# Altium footprint library MicroSMD_50P_V.PcbLib: 85 footprints (part 6 of 7)
Each footprint in its own frame and in the unit in brackets; x right, y up, seen from the top. Pads: shape width x height; smd on the part's side, far side on the other; paste and mask are expansions set on the pad; w line width, h text height; cw(c..) or ccw(c..) is an arc to the next point about the centre after c.
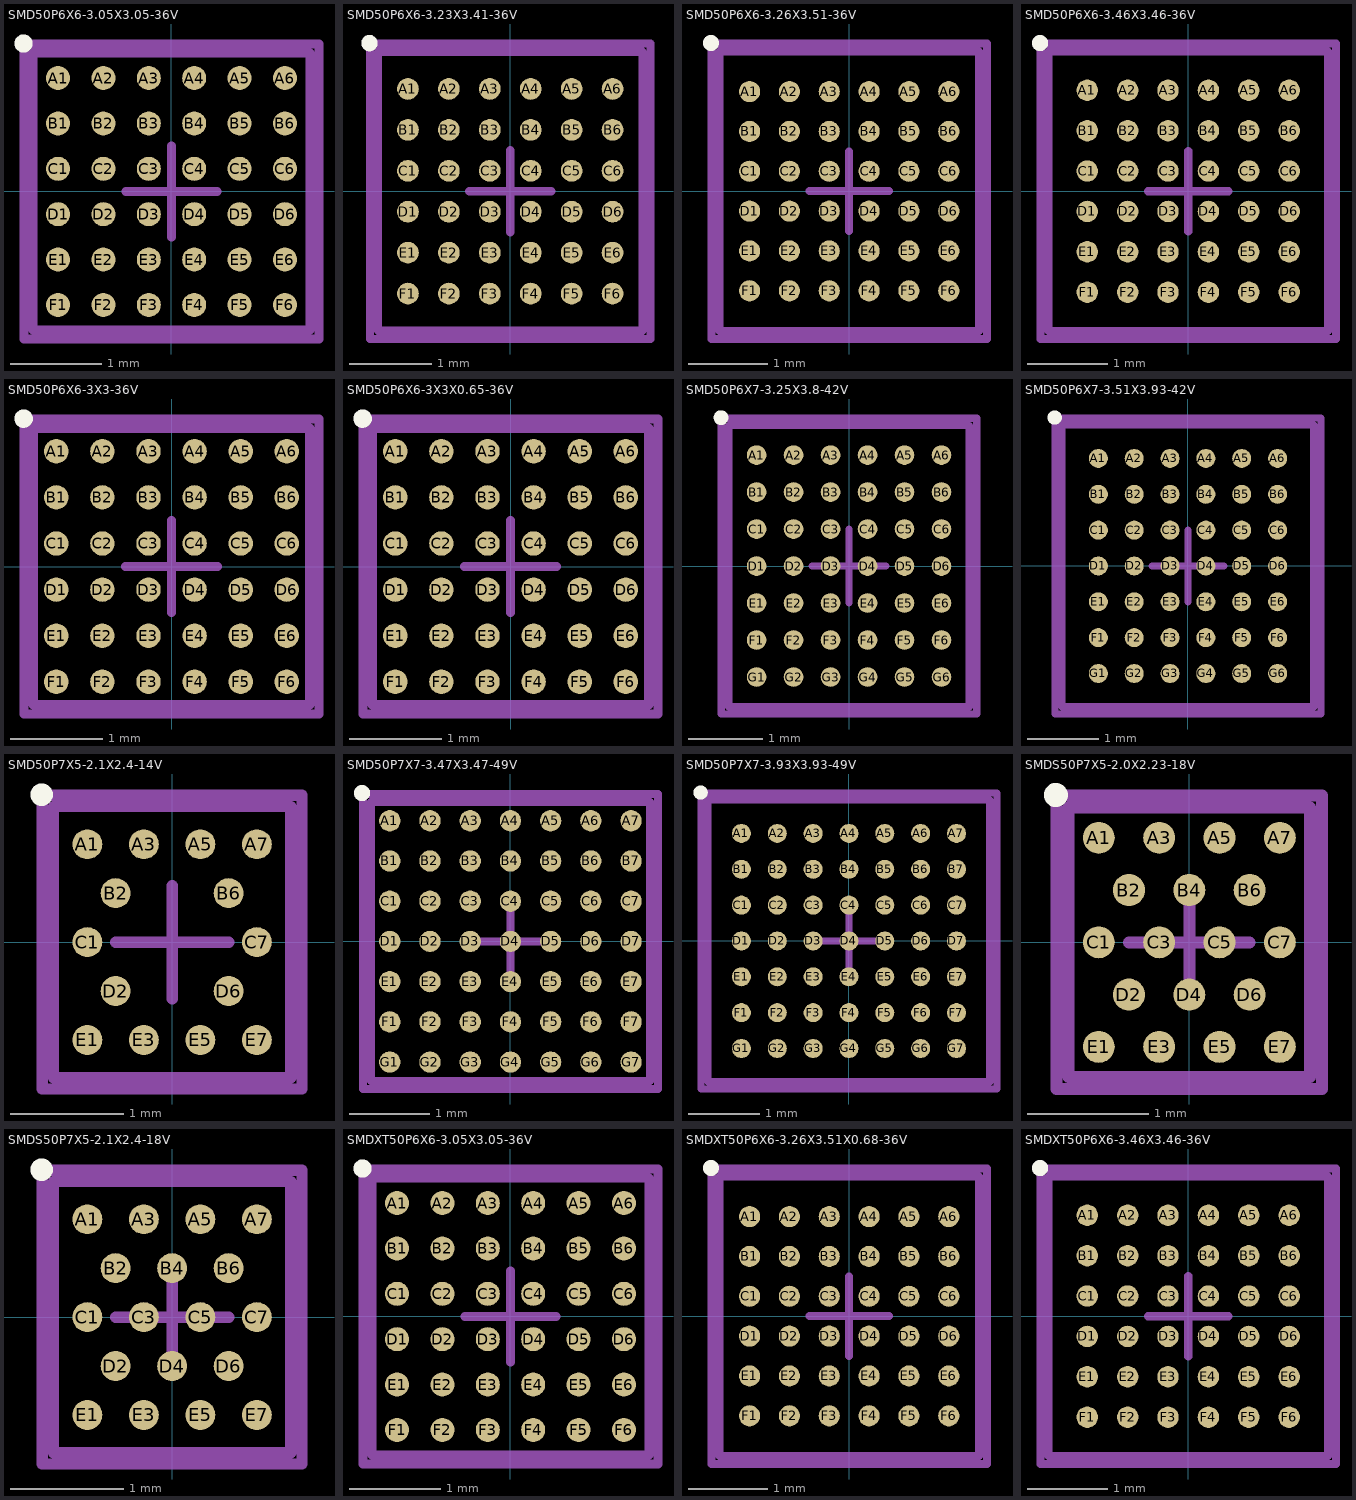
[diagram p5: the footprints below, top view; thin cyan lines are the x and y axes]

## SMD50P6X6-3.05X3.05-36V [mm] "Micro SMD, 36-Leads, Body 3.05x3.05mm, Pitch 0.5mm, NSC Recommended"
height 0.73
pads (36):
  round 0.265 smd paste-0.132 mask+0.05: A1(-1.25,1.25) A2(-0.75,1.25) A3(-0.25,1.25) A4(0.25,1.25) A5(0.75,1.25) A6(1.25,1.25) B1(-1.25,0.75) B2(-0.75,0.75) B3(-0.25,0.75) B4(0.25,0.75) B5(0.75,0.75) B6(1.25,0.75) C1(-1.25,0.25) C2(-0.75,0.25) C3(-0.25,0.25) C4(0.25,0.25) C5(0.75,0.25) C6(1.25,0.25) D1(-1.25,-0.25) D2(-0.75,-0.25) D3(-0.25,-0.25) D4(0.25,-0.25) D5(0.75,-0.25) D6(1.25,-0.25) E1(-1.25,-0.75) E2(-0.75,-0.75) E3(-0.25,-0.75) E4(0.25,-0.75) E5(0.75,-0.75) E6(1.25,-0.75) F1(-1.25,-1.25) F2(-0.75,-1.25) F3(-0.25,-1.25) F4(0.25,-1.25) F5(0.75,-1.25) F6(1.25,-1.25)
Top Overlay:
  circle w0.1: c-1.63,1.63 r0.05
Top Paste:
  drawing of 324 lines, arcs and shapes, not listed
Mechanical 13:
  lines w0.1: -1.525,-1.525 1.525,-1.525 1.525,1.525 -1.525,1.525 -1.525,-1.525
Mechanical 15:
  lines w0.1: -0.5,0 0.5,0 ; 0,-0.5 0,0.5 ; -1.625,-1.625 1.625,-1.625 1.625,1.625 -1.625,1.625 -1.625,-1.625
3D body: height 0.73, standoff 0, extent -1.524,-1.524 1.524,1.524

## SMD50P6X6-3.23X3.41-36V [mm] "Micro SMD, 36-Leads, Body 3.41x3.23mm, Pitch 0.5mm, NSC Recommended"
height 0.68
pads (36):
  round 0.265 smd paste-0.132 mask+0.05: A1(-1.25,1.25) A2(-0.75,1.25) A3(-0.25,1.25) A4(0.25,1.25) A5(0.75,1.25) A6(1.25,1.25) B1(-1.25,0.75) B2(-0.75,0.75) B3(-0.25,0.75) B4(0.25,0.75) B5(0.75,0.75) B6(1.25,0.75) C1(-1.25,0.25) C2(-0.75,0.25) C3(-0.25,0.25) C4(0.25,0.25) C5(0.75,0.25) C6(1.25,0.25) D1(-1.25,-0.25) D2(-0.75,-0.25) D3(-0.25,-0.25) D4(0.25,-0.25) D5(0.75,-0.25) D6(1.25,-0.25) E1(-1.25,-0.75) E2(-0.75,-0.75) E3(-0.25,-0.75) E4(0.25,-0.75) E5(0.75,-0.75) E6(1.25,-0.75) F1(-1.25,-1.25) F2(-0.75,-1.25) F3(-0.25,-1.25) F4(0.25,-1.25) F5(0.75,-1.25) F6(1.25,-1.25)
Top Overlay:
  circle w0.1: c-1.72,1.81 r0.05
Top Paste:
  drawing of 324 lines, arcs and shapes, not listed
Mechanical 13:
  lines w0.1: -1.615,-1.705 1.615,-1.705 1.615,1.705 -1.615,1.705 -1.615,-1.705
Mechanical 15:
  lines w0.1: -0.5,0 0.5,0 ; 0,-0.5 0,0.5 ; -1.715,-1.805 1.715,-1.805 1.715,1.805 -1.715,1.805 -1.715,-1.805
3D body: height 0.68, standoff 0, extent -1.614,-1.704 1.614,1.704

## SMD50P6X6-3.26X3.51-36V [mm] "Micro SMD, 36-Leads, Body 3.51x3.26mm, Pitch 0.5mm, NSC Recommended"
height 0.68
pads (36):
  round 0.265 smd paste-0.132 mask+0.05: A1(-1.25,1.25) A2(-0.75,1.25) A3(-0.25,1.25) A4(0.25,1.25) A5(0.75,1.25) A6(1.25,1.25) B1(-1.25,0.75) B2(-0.75,0.75) B3(-0.25,0.75) B4(0.25,0.75) B5(0.75,0.75) B6(1.25,0.75) C1(-1.25,0.25) C2(-0.75,0.25) C3(-0.25,0.25) C4(0.25,0.25) C5(0.75,0.25) C6(1.25,0.25) D1(-1.25,-0.25) D2(-0.75,-0.25) D3(-0.25,-0.25) D4(0.25,-0.25) D5(0.75,-0.25) D6(1.25,-0.25) E1(-1.25,-0.75) E2(-0.75,-0.75) E3(-0.25,-0.75) E4(0.25,-0.75) E5(0.75,-0.75) E6(1.25,-0.75) F1(-1.25,-1.25) F2(-0.75,-1.25) F3(-0.25,-1.25) F4(0.25,-1.25) F5(0.75,-1.25) F6(1.25,-1.25)
Top Overlay:
  circle w0.1: c-1.735,1.86 r0.05
Top Paste:
  drawing of 324 lines, arcs and shapes, not listed
Mechanical 13:
  lines w0.1: -1.63,-1.755 1.63,-1.755 1.63,1.755 -1.63,1.755 -1.63,-1.755
Mechanical 15:
  lines w0.1: -0.5,0 0.5,0 ; 0,-0.5 0,0.5 ; -1.73,-1.855 1.73,-1.855 1.73,1.855 -1.73,1.855 -1.73,-1.855
3D body: height 0.68, standoff 0, extent -1.629,-1.754 1.629,1.754

## SMD50P6X6-3.46X3.46-36V [mm] "Micro SMD, 36-Leads, Body 3.46x3.46mm, Pitch 0.5mm, NSC Recommended"
height 0.68
pads (36):
  round 0.265 smd paste-0.132 mask+0.05: A1(-1.25,1.25) A2(-0.75,1.25) A3(-0.25,1.25) A4(0.25,1.25) A5(0.75,1.25) A6(1.25,1.25) B1(-1.25,0.75) B2(-0.75,0.75) B3(-0.25,0.75) B4(0.25,0.75) B5(0.75,0.75) B6(1.25,0.75) C1(-1.25,0.25) C2(-0.75,0.25) C3(-0.25,0.25) C4(0.25,0.25) C5(0.75,0.25) C6(1.25,0.25) D1(-1.25,-0.25) D2(-0.75,-0.25) D3(-0.25,-0.25) D4(0.25,-0.25) D5(0.75,-0.25) D6(1.25,-0.25) E1(-1.25,-0.75) E2(-0.75,-0.75) E3(-0.25,-0.75) E4(0.25,-0.75) E5(0.75,-0.75) E6(1.25,-0.75) F1(-1.25,-1.25) F2(-0.75,-1.25) F3(-0.25,-1.25) F4(0.25,-1.25) F5(0.75,-1.25) F6(1.25,-1.25)
Top Overlay:
  circle w0.1: c-1.835,1.835 r0.05
Top Paste:
  drawing of 324 lines, arcs and shapes, not listed
Mechanical 13:
  lines w0.1: -1.73,-1.73 1.73,-1.73 1.73,1.73 -1.73,1.73 -1.73,-1.73
Mechanical 15:
  lines w0.1: -0.5,0 0.5,0 ; 0,-0.5 0,0.5 ; -1.83,-1.83 1.83,-1.83 1.83,1.83 -1.83,1.83 -1.83,-1.83
3D body: height 0.68, standoff 0, extent -1.73,-1.73 1.73,1.73

## SMD50P6X6-3X3-36V [mm] "Micro SMD, 36-Leads, Body 3x3mm, Pitch 0.5mm, NSC Recommended"
height 0.68
pads (36):
  round 0.265 smd paste-0.132 mask+0.05: A1(-1.25,1.25) A2(-0.75,1.25) A3(-0.25,1.25) A4(0.25,1.25) A5(0.75,1.25) A6(1.25,1.25) B1(-1.25,0.75) B2(-0.75,0.75) B3(-0.25,0.75) B4(0.25,0.75) B5(0.75,0.75) B6(1.25,0.75) C1(-1.25,0.25) C2(-0.75,0.25) C3(-0.25,0.25) C4(0.25,0.25) C5(0.75,0.25) C6(1.25,0.25) D1(-1.25,-0.25) D2(-0.75,-0.25) D3(-0.25,-0.25) D4(0.25,-0.25) D5(0.75,-0.25) D6(1.25,-0.25) E1(-1.25,-0.75) E2(-0.75,-0.75) E3(-0.25,-0.75) E4(0.25,-0.75) E5(0.75,-0.75) E6(1.25,-0.75) F1(-1.25,-1.25) F2(-0.75,-1.25) F3(-0.25,-1.25) F4(0.25,-1.25) F5(0.75,-1.25) F6(1.25,-1.25)
Top Overlay:
  circle w0.1: c-1.605,1.605 r0.05
Top Paste:
  drawing of 324 lines, arcs and shapes, not listed
Mechanical 13:
  lines w0.1: -1.5,-1.5 1.5,-1.5 1.5,1.5 -1.5,1.5 -1.5,-1.5
Mechanical 15:
  lines w0.1: -0.5,0 0.5,0 ; 0,-0.5 0,0.5 ; -1.6,-1.6 1.6,-1.6 1.6,1.6 -1.6,1.6 -1.6,-1.6
3D body: height 0.68, standoff 0, extent -1.499,-1.499 1.499,1.499

## SMD50P6X6-3X3X0.65-36V [mm] "Micro SMD, 36-Leads, Body 3x3mm, Pitch 0.5mm, NSC Recommended"
height 0.73
pads (36):
  round 0.265 smd paste-0.132 mask+0.05: A1(-1.25,1.25) A2(-0.75,1.25) A3(-0.25,1.25) A4(0.25,1.25) A5(0.75,1.25) A6(1.25,1.25) B1(-1.25,0.75) B2(-0.75,0.75) B3(-0.25,0.75) B4(0.25,0.75) B5(0.75,0.75) B6(1.25,0.75) C1(-1.25,0.25) C2(-0.75,0.25) C3(-0.25,0.25) C4(0.25,0.25) C5(0.75,0.25) C6(1.25,0.25) D1(-1.25,-0.25) D2(-0.75,-0.25) D3(-0.25,-0.25) D4(0.25,-0.25) D5(0.75,-0.25) D6(1.25,-0.25) E1(-1.25,-0.75) E2(-0.75,-0.75) E3(-0.25,-0.75) E4(0.25,-0.75) E5(0.75,-0.75) E6(1.25,-0.75) F1(-1.25,-1.25) F2(-0.75,-1.25) F3(-0.25,-1.25) F4(0.25,-1.25) F5(0.75,-1.25) F6(1.25,-1.25)
Top Overlay:
  circle w0.1: c-1.605,1.605 r0.05
Top Paste:
  drawing of 324 lines, arcs and shapes, not listed
Mechanical 13:
  lines w0.1: -1.5,-1.5 1.5,-1.5 1.5,1.5 -1.5,1.5 -1.5,-1.5
Mechanical 15:
  lines w0.1: -0.5,0 0.5,0 ; 0,-0.5 0,0.5 ; -1.6,-1.6 1.6,-1.6 1.6,1.6 -1.6,1.6 -1.6,-1.6
3D body: height 0.73, standoff 0, extent -1.499,-1.499 1.499,1.499

## SMD50P6X7-3.25X3.8-42V [mm] "Micro SMD, 42-Leads, Body 3.8x3.25mm, Pitch 0.5mm, NSC Recommended"
height 0.73
pads (42):
  round 0.265 smd paste-0.132 mask+0.05: A1(-1.25,1.5) A2(-0.75,1.5) A3(-0.25,1.5) A4(0.25,1.5) A5(0.75,1.5) A6(1.25,1.5) B1(-1.25,1) B2(-0.75,1) B3(-0.25,1) B4(0.25,1) B5(0.75,1) B6(1.25,1) C1(-1.25,0.5) C2(-0.75,0.5) C3(-0.25,0.5) C4(0.25,0.5) C5(0.75,0.5) C6(1.25,0.5) D1(-1.25,0) D2(-0.75,0) D3(-0.25,0) D4(0.25,0) D5(0.75,0) D6(1.25,0) E1(-1.25,-0.5) E2(-0.75,-0.5) E3(-0.25,-0.5) E4(0.25,-0.5) E5(0.75,-0.5) E6(1.25,-0.5) F1(-1.25,-1) F2(-0.75,-1) F3(-0.25,-1) F4(0.25,-1) F5(0.75,-1) F6(1.25,-1) G1(-1.25,-1.5) G2(-0.75,-1.5) G3(-0.25,-1.5) G4(0.25,-1.5) G5(0.75,-1.5) G6(1.25,-1.5)
Top Overlay:
  circle w0.1: c-1.73,2.005 r0.05
Top Paste:
  drawing of 378 lines, arcs and shapes, not listed
Mechanical 13:
  lines w0.1: -1.625,-1.9 -1.625,1.9 1.625,1.9 1.625,-1.9 -1.625,-1.9
Mechanical 15:
  lines w0.1: -0.5,0 0.5,0 ; 0,-0.5 0,0.5 ; -1.725,-2 -1.725,2 1.725,2 1.725,-2 -1.725,-2
3D body: height 0.73, standoff 0, extent -1.624,-1.899 1.624,1.899

## SMD50P6X7-3.51X3.93-42V [mm] "Micro SMD, 42-Leads, Body 3.93x3.51mm, Pitch 0.5mm, NSC Recommended"
height 0.68
pads (42):
  round 0.265 smd paste-0.132 mask+0.05: A1(-1.25,1.5) A2(-0.75,1.5) A3(-0.25,1.5) A4(0.25,1.5) A5(0.75,1.5) A6(1.25,1.5) B1(-1.25,1) B2(-0.75,1) B3(-0.25,1) B4(0.25,1) B5(0.75,1) B6(1.25,1) C1(-1.25,0.5) C2(-0.75,0.5) C3(-0.25,0.5) C4(0.25,0.5) C5(0.75,0.5) C6(1.25,0.5) D1(-1.25,0) D2(-0.75,0) D3(-0.25,0) D4(0.25,0) D5(0.75,0) D6(1.25,0) E1(-1.25,-0.5) E2(-0.75,-0.5) E3(-0.25,-0.5) E4(0.25,-0.5) E5(0.75,-0.5) E6(1.25,-0.5) F1(-1.25,-1) F2(-0.75,-1) F3(-0.25,-1) F4(0.25,-1) F5(0.75,-1) F6(1.25,-1) G1(-1.25,-1.5) G2(-0.75,-1.5) G3(-0.25,-1.5) G4(0.25,-1.5) G5(0.75,-1.5) G6(1.25,-1.5)
Top Overlay:
  circle w0.1: c-1.86,2.07 r0.05
Top Paste:
  drawing of 378 lines, arcs and shapes, not listed
Mechanical 13:
  lines w0.1: -1.755,-1.965 1.755,-1.965 1.755,1.965 -1.755,1.965 -1.755,-1.965
Mechanical 15:
  lines w0.1: -0.5,0 0.5,0 ; 0,-0.5 0,0.5 ; -1.855,-2.065 1.855,-2.065 1.855,2.065 -1.855,2.065 -1.855,-2.065
3D body: height 0.68, standoff 0, extent -1.754,-1.964 1.754,1.964

## SMD50P7X5-2.1X2.4-14V [mm] "Micro SMD, 18-Leads, Body 2.41x2.1mm, Pitch 0.5mm, NSC Recommended"
height 0.68
pads (14):
  round 0.265 smd paste-0.132 mask+0.05: A1(-0.75,0.866) A3(-0.25,0.866) A5(0.25,0.866) A7(0.75,0.866) B2(-0.5,0.433) B6(0.5,0.433) C1(-0.75,0) C7(0.75,0) D2(-0.5,-0.433) D6(0.5,-0.433) E1(-0.75,-0.866) E3(-0.25,-0.866) E5(0.25,-0.866) E7(0.75,-0.866)
Top Overlay:
  circle w0.1: c-1.155,1.305 r0.05
Top Paste:
  circle w0.05: c-0.7,0.816 r0.025
  circle w0.05: c-0.85,0.966 r0.025
  circle w0.05: c-0.85,0.816 r0.025
  circle w0.05: c-0.7,0.966 r0.025
  circle w0.05: c0.85,0.816 r0.025
  circle w0.05: c0.7,0.966 r0.025
  circle w0.05: c0.7,0.816 r0.025
  circle w0.05: c0.85,0.966 r0.025
  circle w0.05: c0.85,-0.816 r0.025
  circle w0.05: c0.7,-0.966 r0.025
  circle w0.05: c0.7,-0.816 r0.025
  circle w0.05: c0.85,-0.966 r0.025
  circle w0.05: c-0.7,-0.966 r0.025
  circle w0.05: c-0.85,-0.816 r0.025
  circle w0.05: c-0.85,-0.966 r0.025
  circle w0.05: c-0.7,-0.816 r0.025
  circle w0.05: c0.575,0.508 r0.025
  circle w0.05: c0.425,0.358 r0.025
  circle w0.05: c0.425,0.508 r0.025
  circle w0.05: c0.575,0.358 r0.025
  circle w0.05: c0.325,0.816 r0.025
  circle w0.05: c0.175,0.966 r0.025
  circle w0.05: c0.175,0.816 r0.025
  circle w0.05: c0.325,0.966 r0.025
  circle w0.05: c-0.175,0.816 r0.025
  circle w0.05: c-0.325,0.966 r0.025
  circle w0.05: c-0.325,0.816 r0.025
  circle w0.05: c-0.175,0.966 r0.025
  circle w0.05: c0.575,-0.508 r0.025
  circle w0.05: c0.425,-0.358 r0.025
  circle w0.05: c0.425,-0.508 r0.025
  circle w0.05: c0.575,-0.358 r0.025
  circle w0.05: c-0.425,0.358 r0.025
  circle w0.05: c-0.575,0.508 r0.025
  circle w0.05: c-0.575,0.358 r0.025
  circle w0.05: c-0.425,0.508 r0.025
  circle w0.05: c-0.7,-0.075 r0.025
  circle w0.05: c-0.85,0.075 r0.025
  circle w0.05: c-0.85,-0.075 r0.025
  circle w0.05: c-0.7,0.075 r0.025
  circle w0.05: c-0.425,-0.358 r0.025
  circle w0.05: c-0.575,-0.508 r0.025
  circle w0.05: c-0.575,-0.358 r0.025
  circle w0.05: c-0.425,-0.508 r0.025
  circle w0.05: c0.325,-0.816 r0.025
  circle w0.05: c0.175,-0.966 r0.025
  circle w0.05: c0.175,-0.816 r0.025
  circle w0.05: c0.325,-0.966 r0.025
  circle w0.05: c-0.175,-0.816 r0.025
  circle w0.05: c-0.325,-0.966 r0.025
  circle w0.05: c-0.325,-0.816 r0.025
  circle w0.05: c-0.175,-0.966 r0.025
  circle w0.05: c0.85,0.075 r0.025
  circle w0.05: c0.7,-0.075 r0.025
  circle w0.05: c0.7,0.075 r0.025
  circle w0.05: c0.85,-0.075 r0.025
  region: -0.85,0.966 -0.85,0.816 -0.7,0.816 -0.7,0.966
  region: -0.65,0.816 -0.65,0.966 -0.7,0.966 -0.7,0.816
  region: -0.7,1.016 -0.85,1.016 -0.85,0.966 -0.7,0.966
  region: -0.9,0.966 -0.9,0.816 -0.85,0.816 -0.85,0.966
  rectangle: -0.85,0.766 -0.7,0.816
  region: 0.7,0.966 0.7,0.816 0.85,0.816 0.85,0.966
  region: 0.9,0.816 0.9,0.966 0.85,0.966 0.85,0.816
  region: 0.85,1.016 0.7,1.016 0.7,0.966 0.85,0.966
  region: 0.65,0.966 0.65,0.816 0.7,0.816 0.7,0.966
  rectangle: 0.7,0.766 0.85,0.816
  rectangle: 0.7,-1.016 0.85,-0.966
  region: 0.65,-0.816 0.65,-0.966 0.7,-0.966 0.7,-0.816
  region: 0.85,-0.766 0.7,-0.766 0.7,-0.816 0.85,-0.816
  region: 0.9,-0.966 0.9,-0.816 0.85,-0.816 0.85,-0.966
  region: 0.7,-0.816 0.7,-0.966 0.85,-0.966 0.85,-0.816
  region: -0.85,-0.816 -0.85,-0.966 -0.7,-0.966 -0.7,-0.816
  region: -0.65,-0.966 -0.65,-0.816 -0.7,-0.816 -0.7,-0.966
  region: -0.7,-0.766 -0.85,-0.766 -0.85,-0.816 -0.7,-0.816
  region: -0.9,-0.816 -0.9,-0.966 -0.85,-0.966 -0.85,-0.816
  rectangle: -0.85,-1.016 -0.7,-0.966
  rectangle: 0.425,0.308 0.575,0.358
  region: 0.375,0.508 0.375,0.358 0.425,0.358 0.425,0.508
  region: 0.575,0.558 0.425,0.558 0.425,0.508 0.575,0.508
  region: 0.625,0.358 0.625,0.508 0.575,0.508 0.575,0.358
  region: 0.425,0.508 0.425,0.358 0.575,0.358 0.575,0.508
  region: 0.175,0.966 0.175,0.816 0.325,0.816 0.325,0.966
  region: 0.375,0.816 0.375,0.966 0.325,0.966 0.325,0.816
  region: 0.325,1.016 0.175,1.016 0.175,0.966 0.325,0.966
  region: 0.125,0.966 0.125,0.816 0.175,0.816 0.175,0.966
  rectangle: 0.175,0.766 0.325,0.816
  region: -0.325,0.966 -0.325,0.816 -0.175,0.816 -0.175,0.966
  region: -0.125,0.816 -0.125,0.966 -0.175,0.966 -0.175,0.816
  region: -0.175,1.016 -0.325,1.016 -0.325,0.966 -0.175,0.966
  region: -0.375,0.966 -0.375,0.816 -0.325,0.816 -0.325,0.966
  rectangle: -0.325,0.766 -0.175,0.816
  region: 0.425,-0.358 0.425,-0.508 0.575,-0.508 0.575,-0.358
  region: 0.625,-0.508 0.625,-0.358 0.575,-0.358 0.575,-0.508
  region: 0.575,-0.308 0.425,-0.308 0.425,-0.358 0.575,-0.358
  region: 0.375,-0.358 0.375,-0.508 0.425,-0.508 0.425,-0.358
  rectangle: 0.425,-0.558 0.575,-0.508
  region: -0.575,0.508 -0.575,0.358 -0.425,0.358 -0.425,0.508
  region: -0.375,0.358 -0.375,0.508 -0.425,0.508 -0.425,0.358
  region: -0.425,0.558 -0.575,0.558 -0.575,0.508 -0.425,0.508
  region: -0.625,0.508 -0.625,0.358 -0.575,0.358 -0.575,0.508
  rectangle: -0.575,0.308 -0.425,0.358
  region: -0.85,0.075 -0.85,-0.075 -0.7,-0.075 -0.7,0.075
  region: -0.65,-0.075 -0.65,0.075 -0.7,0.075 -0.7,-0.075
  region: -0.7,0.125 -0.85,0.125 -0.85,0.075 -0.7,0.075
  region: -0.9,0.075 -0.9,-0.075 -0.85,-0.075 -0.85,0.075
  rectangle: -0.85,-0.125 -0.7,-0.075
  rectangle: -0.575,-0.558 -0.425,-0.508
  region: -0.625,-0.358 -0.625,-0.508 -0.575,-0.508 -0.575,-0.358
  region: -0.425,-0.308 -0.575,-0.308 -0.575,-0.358 -0.425,-0.358
  region: -0.375,-0.508 -0.375,-0.358 -0.425,-0.358 -0.425,-0.508
  region: -0.575,-0.358 -0.575,-0.508 -0.425,-0.508 -0.425,-0.358
  rectangle: 0.175,-1.016 0.325,-0.966
  region: 0.125,-0.816 0.125,-0.966 0.175,-0.966 0.175,-0.816
  region: 0.325,-0.766 0.175,-0.766 0.175,-0.816 0.325,-0.816
  region: 0.375,-0.966 0.375,-0.816 0.325,-0.816 0.325,-0.966
  region: 0.175,-0.816 0.175,-0.966 0.325,-0.966 0.325,-0.816
  rectangle: -0.325,-1.016 -0.175,-0.966
  region: -0.375,-0.816 -0.375,-0.966 -0.325,-0.966 -0.325,-0.816
  region: -0.175,-0.766 -0.325,-0.766 -0.325,-0.816 -0.175,-0.816
  region: -0.125,-0.966 -0.125,-0.816 -0.175,-0.816 -0.175,-0.966
  region: -0.325,-0.816 -0.325,-0.966 -0.175,-0.966 -0.175,-0.816
  rectangle: 0.7,-0.125 0.85,-0.075
  region: 0.65,0.075 0.65,-0.075 0.7,-0.075 0.7,0.075
  region: 0.85,0.125 0.7,0.125 0.7,0.075 0.85,0.075
  region: 0.9,-0.075 0.9,0.075 0.85,0.075 0.85,-0.075
  region: 0.7,0.075 0.7,-0.075 0.85,-0.075 0.85,0.075
Mechanical 13:
  lines w0.1: -1.05,-1.2 -1.05,1.2 1.05,1.2 1.05,-1.2 -1.05,-1.2
Mechanical 15:
  lines w0.1: -0.5,0 0.5,0 ; 0,-0.5 0,0.5 ; -1.15,-1.3 1.15,-1.3 1.15,1.3 -1.15,1.3 -1.15,-1.3
3D body: height 0.68, standoff 0, extent -1.049,-1.199 1.049,1.199

## SMD50P7X7-3.47X3.47-49V [mm] "Micro SMD, 49-Leads, Body 3.47x3.47mm, Pitch 0.5mm, NSC Recommended"
height 0.73
pads (49):
  round 0.265 smd paste-0.132 mask+0.05: A1(-1.5,1.5) A2(-1,1.5) A3(-0.5,1.5) A4(0,1.5) A5(0.5,1.5) A6(1,1.5) A7(1.5,1.5) B1(-1.5,1) B2(-1,1) B3(-0.5,1) B4(0,1) B5(0.5,1) B6(1,1) B7(1.5,1) C1(-1.5,0.5) C2(-1,0.5) C3(-0.5,0.5) C4(0,0.5) C5(0.5,0.5) C6(1,0.5) C7(1.5,0.5) D1(-1.5,0) D2(-1,0) D3(-0.5,0) D4(0,0) D5(0.5,0) D6(1,0) D7(1.5,0) E1(-1.5,-0.5) E2(-1,-0.5) E3(-0.5,-0.5) E4(0,-0.5) E5(0.5,-0.5) E6(1,-0.5) E7(1.5,-0.5) F1(-1.5,-1) F2(-1,-1) F3(-0.5,-1) F4(0,-1) F5(0.5,-1) F6(1,-1) F7(1.5,-1) G1(-1.5,-1.5) G2(-1,-1.5) G3(-0.5,-1.5) G4(0,-1.5) G5(0.5,-1.5) G6(1,-1.5) G7(1.5,-1.5)
Top Overlay:
  circle w0.1: c-1.845,1.845 r0.05
Top Paste:
  drawing of 441 lines, arcs and shapes, not listed
Mechanical 13:
  lines w0.1: -1.735,-1.735 1.735,-1.735 1.735,1.735 -1.735,1.735 -1.735,-1.735
Mechanical 15:
  lines w0.1: -0.5,0 0.5,0 ; 0,-0.5 0,0.5 ; -1.835,-1.835 1.835,-1.835 1.835,1.835 -1.835,1.835 -1.835,-1.835
3D body: height 0.73, standoff 0, extent -1.734,-1.734 1.734,1.734

## SMD50P7X7-3.93X3.93-49V [mm] "Micro SMD, 49-Leads, Body 3.93x3.93mm, Pitch 0.5mm, NSC Recommended"
height 0.73
pads (49):
  round 0.265 smd paste-0.132 mask+0.05: A1(-1.5,1.5) A2(-1,1.5) A3(-0.5,1.5) A4(0,1.5) A5(0.5,1.5) A6(1,1.5) A7(1.5,1.5) B1(-1.5,1) B2(-1,1) B3(-0.5,1) B4(0,1) B5(0.5,1) B6(1,1) B7(1.5,1) C1(-1.5,0.5) C2(-1,0.5) C3(-0.5,0.5) C4(0,0.5) C5(0.5,0.5) C6(1,0.5) C7(1.5,0.5) D1(-1.5,0) D2(-1,0) D3(-0.5,0) D4(0,0) D5(0.5,0) D6(1,0) D7(1.5,0) E1(-1.5,-0.5) E2(-1,-0.5) E3(-0.5,-0.5) E4(0,-0.5) E5(0.5,-0.5) E6(1,-0.5) E7(1.5,-0.5) F1(-1.5,-1) F2(-1,-1) F3(-0.5,-1) F4(0,-1) F5(0.5,-1) F6(1,-1) F7(1.5,-1) G1(-1.5,-1.5) G2(-1,-1.5) G3(-0.5,-1.5) G4(0,-1.5) G5(0.5,-1.5) G6(1,-1.5) G7(1.5,-1.5)
Top Overlay:
  circle w0.1: c-2.07,2.07 r0.05
Top Paste:
  drawing of 441 lines, arcs and shapes, not listed
Mechanical 13:
  lines w0.1: -1.965,-1.965 1.965,-1.965 1.965,1.965 -1.965,1.965 -1.965,-1.965
Mechanical 15:
  lines w0.1: -0.5,0 0.5,0 ; 0,-0.5 0,0.5 ; -2.065,-2.065 2.065,-2.065 2.065,2.065 -2.065,2.065 -2.065,-2.065
3D body: height 0.73, standoff 0, extent -1.964,-1.964 1.964,1.964

## SMDS50P7X5-2.0X2.23-18V [mm] "Micro SMD, 18-Leads, Body 2.23x2.0mm, Pitch 0.5mm, NSC Recommended"
height 0.68
pads (18):
  round 0.265 smd paste-0.132 mask+0.05: A1(-0.75,0.866) A3(-0.25,0.866) A5(0.25,0.866) A7(0.75,0.866) B2(-0.5,0.433) B4(0,0.433) B6(0.5,0.433) C1(-0.75,0) C3(-0.25,0) C5(0.25,0) C7(0.75,0) D2(-0.5,-0.433) D4(0,-0.433) D6(0.5,-0.433) E1(-0.75,-0.866) E3(-0.25,-0.866) E5(0.25,-0.866) E7(0.75,-0.866)
Top Overlay:
  circle w0.1: c-1.105,1.22 r0.05
Top Paste:
  drawing of 162 lines, arcs and shapes, not listed
Mechanical 13:
  lines w0.1: -1,-1.115 -1,1.115 1,1.115 1,-1.115 -1,-1.115
Mechanical 15:
  lines w0.1: -0.5,0 0.5,0 ; 0,-0.5 0,0.5 ; -1.1,-1.215 -1.1,1.215 1.1,1.215 1.1,-1.215 -1.1,-1.215
3D body: height 0.68, standoff 0, extent -0.999,-1.114 0.999,1.114

## SMDS50P7X5-2.1X2.4-18V [mm] "Micro SMD, 18-Leads, Body 2.41x2.1mm, Pitch 0.5mm, NSC Recommended"
height 0.68
pads (18):
  round 0.265 smd paste-0.132 mask+0.05: A1(-0.75,0.866) A3(-0.25,0.866) A5(0.25,0.866) A7(0.75,0.866) B2(-0.5,0.433) B4(0,0.433) B6(0.5,0.433) C1(-0.75,0) C3(-0.25,0) C5(0.25,0) C7(0.75,0) D2(-0.5,-0.433) D4(0,-0.433) D6(0.5,-0.433) E1(-0.75,-0.866) E3(-0.25,-0.866) E5(0.25,-0.866) E7(0.75,-0.866)
Top Overlay:
  circle w0.1: c-1.155,1.305 r0.05
Top Paste:
  drawing of 162 lines, arcs and shapes, not listed
Mechanical 13:
  lines w0.1: -1.05,-1.2 1.05,-1.2 1.05,1.2 -1.05,1.2 -1.05,-1.2
Mechanical 15:
  lines w0.1: -0.5,0 0.5,0 ; 0,-0.5 0,0.5 ; -1.15,-1.3 -1.15,1.3 1.15,1.3 1.15,-1.3 -1.15,-1.3
3D body: height 0.68, standoff 0, extent -1.049,-1.2 1.049,1.199

## SMDXT50P6X6-3.05X3.05-36V [mm] "Micro SMD, 36-Leads, Body 3.05x3.05mm, Pitch 0.5mm, NSC Recommended"
height 0.73
pads (36):
  round 0.265 smd paste-0.132 mask+0.05: A1(-1.25,1.25) A2(-0.75,1.25) A3(-0.25,1.25) A4(0.25,1.25) A5(0.75,1.25) A6(1.25,1.25) B1(-1.25,0.75) B2(-0.75,0.75) B3(-0.25,0.75) B4(0.25,0.75) B5(0.75,0.75) B6(1.25,0.75) C1(-1.25,0.25) C2(-0.75,0.25) C3(-0.25,0.25) C4(0.25,0.25) C5(0.75,0.25) C6(1.25,0.25) D1(-1.25,-0.25) D2(-0.75,-0.25) D3(-0.25,-0.25) D4(0.25,-0.25) D5(0.75,-0.25) D6(1.25,-0.25) E1(-1.25,-0.75) E2(-0.75,-0.75) E3(-0.25,-0.75) E4(0.25,-0.75) E5(0.75,-0.75) E6(1.25,-0.75) F1(-1.25,-1.25) F2(-0.75,-1.25) F3(-0.25,-1.25) F4(0.25,-1.25) F5(0.75,-1.25) F6(1.25,-1.25)
Top Overlay:
  circle w0.1: c-1.63,1.63 r0.05
Top Paste:
  drawing of 324 lines, arcs and shapes, not listed
Mechanical 13:
  lines w0.1: -1.525,-1.525 1.525,-1.525 1.525,1.525 -1.525,1.525 -1.525,-1.525
Mechanical 15:
  lines w0.1: -0.5,0 0.5,0 ; 0,-0.5 0,0.5 ; -1.625,-1.625 1.625,-1.625 1.625,1.625 -1.625,1.625 -1.625,-1.625
3D body: height 0.73, standoff 0, extent -1.525,-1.525 1.525,1.525

## SMDXT50P6X6-3.26X3.51X0.68-36V [mm] "Micro SMD, 36-Leads, Body 3.51x3.26mm, Pitch 0.5mm, NSC Recommended"
height 0.68
pads (36):
  round 0.265 smd paste-0.132 mask+0.05: A1(-1.25,1.25) A2(-0.75,1.25) A3(-0.25,1.25) A4(0.25,1.25) A5(0.75,1.25) A6(1.25,1.25) B1(-1.25,0.75) B2(-0.75,0.75) B3(-0.25,0.75) B4(0.25,0.75) B5(0.75,0.75) B6(1.25,0.75) C1(-1.25,0.25) C2(-0.75,0.25) C3(-0.25,0.25) C4(0.25,0.25) C5(0.75,0.25) C6(1.25,0.25) D1(-1.25,-0.25) D2(-0.75,-0.25) D3(-0.25,-0.25) D4(0.25,-0.25) D5(0.75,-0.25) D6(1.25,-0.25) E1(-1.25,-0.75) E2(-0.75,-0.75) E3(-0.25,-0.75) E4(0.25,-0.75) E5(0.75,-0.75) E6(1.25,-0.75) F1(-1.25,-1.25) F2(-0.75,-1.25) F3(-0.25,-1.25) F4(0.25,-1.25) F5(0.75,-1.25) F6(1.25,-1.25)
Top Overlay:
  circle w0.1: c-1.735,1.86 r0.05
Top Paste:
  drawing of 324 lines, arcs and shapes, not listed
Mechanical 13:
  lines w0.1: -1.63,-1.755 1.63,-1.755 1.63,1.755 -1.63,1.755 -1.63,-1.755
Mechanical 15:
  lines w0.1: -0.5,0 0.5,0 ; 0,-0.5 0,0.5 ; -1.73,-1.855 1.73,-1.855 1.73,1.855 -1.73,1.855 -1.73,-1.855
3D body: height 0.68, standoff 0, extent -1.63,-1.755 1.63,1.755

## SMDXT50P6X6-3.46X3.46-36V [mm] "Micro SMD, 36-Leads, Body 3.46x3.46mm, Pitch 0.5mm, NSC Recommended"
height 0.68
pads (36):
  round 0.265 smd paste-0.132 mask+0.05: A1(-1.25,1.25) A2(-0.75,1.25) A3(-0.25,1.25) A4(0.25,1.25) A5(0.75,1.25) A6(1.25,1.25) B1(-1.25,0.75) B2(-0.75,0.75) B3(-0.25,0.75) B4(0.25,0.75) B5(0.75,0.75) B6(1.25,0.75) C1(-1.25,0.25) C2(-0.75,0.25) C3(-0.25,0.25) C4(0.25,0.25) C5(0.75,0.25) C6(1.25,0.25) D1(-1.25,-0.25) D2(-0.75,-0.25) D3(-0.25,-0.25) D4(0.25,-0.25) D5(0.75,-0.25) D6(1.25,-0.25) E1(-1.25,-0.75) E2(-0.75,-0.75) E3(-0.25,-0.75) E4(0.25,-0.75) E5(0.75,-0.75) E6(1.25,-0.75) F1(-1.25,-1.25) F2(-0.75,-1.25) F3(-0.25,-1.25) F4(0.25,-1.25) F5(0.75,-1.25) F6(1.25,-1.25)
Top Overlay:
  circle w0.1: c-1.835,1.835 r0.05
Top Paste:
  drawing of 324 lines, arcs and shapes, not listed
Mechanical 13:
  lines w0.1: -1.73,-1.73 1.73,-1.73 1.73,1.73 -1.73,1.73 -1.73,-1.73
Mechanical 15:
  lines w0.1: -0.5,0 0.5,0 ; 0,-0.5 0,0.5 ; -1.83,-1.83 1.83,-1.83 1.83,1.83 -1.83,1.83 -1.83,-1.83
3D body: height 0.68, standoff 0, extent -1.73,-1.73 1.73,1.73